# EAGLE library part AD8041 (library 0myLib)
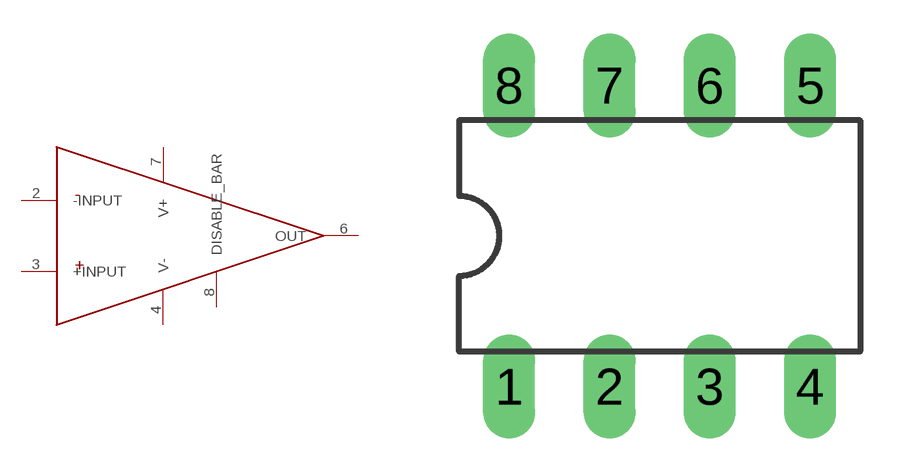
[diagram p56: symbol with the pads of DIL-08; footprint DIL-08]

Designator prefix -

## AD8041  [DIL-08]
2  -INPUT
3  +INPUT
4  V-
6  OUT
7  V+
8  DISABLE_BAR

## Footprint DIL-08 (pad centres in mm)
Dual In Line Package
drill 0.813 long: 1 -3.81,-3.81; 2 -1.27,-3.81; 3 1.27,-3.81; 4 3.81,-3.81; 5 3.81,3.81; 6 1.27,3.81; 7 -1.27,3.81; 8 -3.81,3.81